# Altium integrated library Q-Resistors.IntLib: 917 symbols (part 5 of 8)
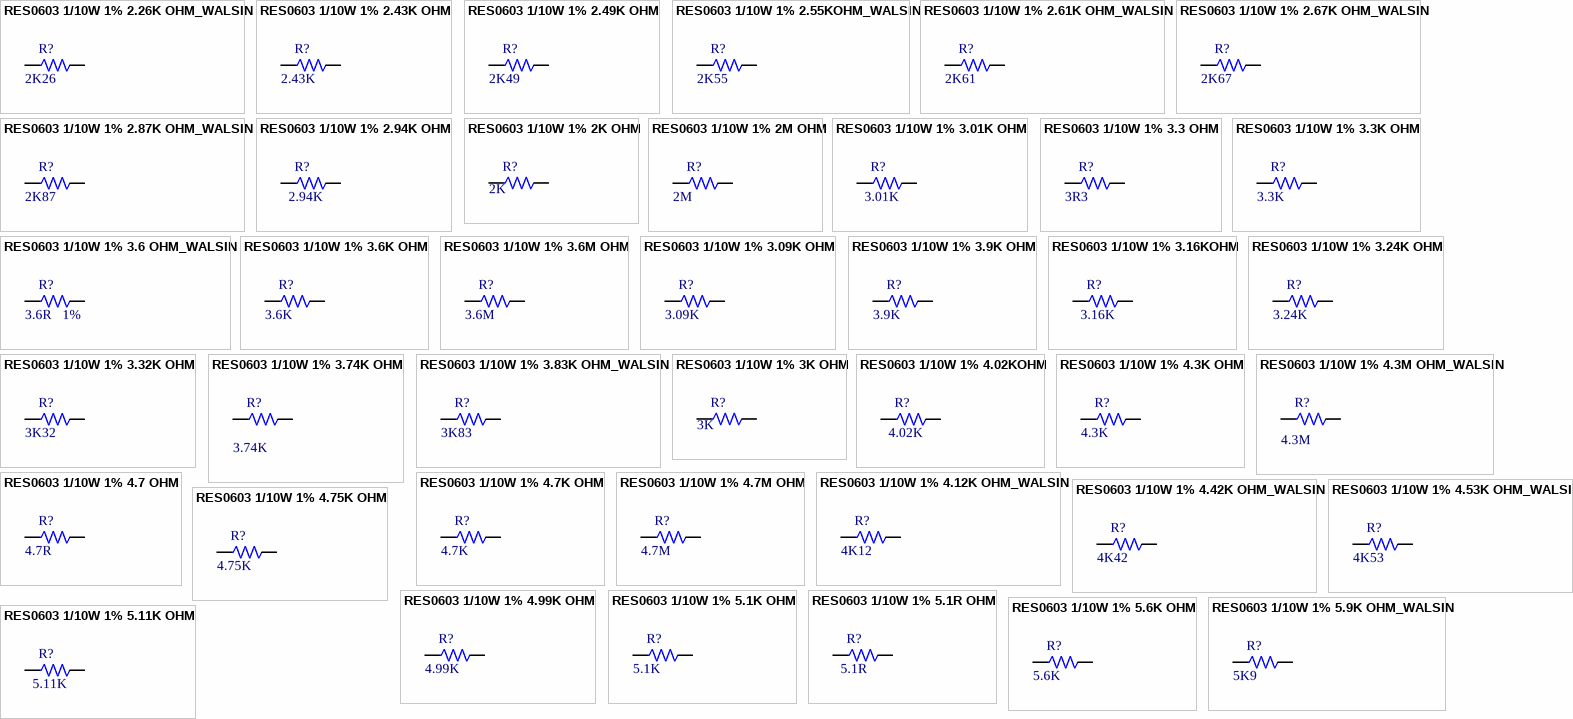
[diagram p26: symbols RES0603 1/10W 1% 2.26K OHM_WALSIN to RES0603 1/10W 1% 5.11K OHM]

## RES0603 1/10W 1% 4.99K OHM
designator R?, comment value 4.99K  (hidden comment: QCF011030-4991)
GP CHIP RES. 4.99K OHM 1/10W 1% 0603; Vendor Code: 10010262; SAP: T502499102399; Vendor Name: 东莞市晴远电子有限公司; DIP&SMD: SMD; Power: 1/10W; MFG Part: *; MFG: *; TOL: 1%; Type: Resistor; PACKAGE: 0603; Customer Specific: N/A
footprint 0603-RW
footprint 0603-SW
pins: 1, 2

## RES0603 1/10W 1% 5.1K OHM
designator R?, comment value 5.1K  (hidden comment: QCF011030-5101)
GP CHIP RES. 5.1K OHM 1/10W 1% 0603; Vendor Code: 10010262; SAP: T502510102399; Vendor Name: 东莞市晴远电子有限公司; DIP&SMD: SMD; Power: 1/10W; MFG Part: *; MFG: *; TOL: 1%; Type: Resistor; PACKAGE: 0603; Customer Specific: N/A
footprint 0603-RW
footprint 0603-SW
pins: 1, 2

## RES0603 1/10W 1% 5.1R OHM
designator R?, comment value 5.1R  (hidden comment: QCF011030-5108)
CHIP RES 5.1 OHM 1% 1/10W 0603 DALE/VISH; SAP: T502510B02399; CREATE_NAME: GordonL@Deftronics; DIP&SMD: SMD; Vendor Code: *; Power: 1/10W; Vendor Name: *; MFG: *; MFG Part: *; TOL: 1%; Type: Resistor; CREATE_TIME: 20-Mar-2014; PACKAGE: 0603; Customer Specific: N/A
footprint 0603-RW
footprint 0603-SW
pins: 1, 2

## RES0603 1/10W 1% 5.6K OHM
designator R?, comment value 5.6K  (hidden comment: QCF011030-5601)
GP CHIP RES. 5.6K OHM 1/10W 1% 0603; Vendor Code: 10010262; SAP: T502560102399; Vendor Name: 东莞市晴远电子有限公司; DIP&SMD: SMD; Power: 1/10W; MFG Part: *; MFG: *; TOL: 1%; Type: Resistor; PACKAGE: 0603; Customer Specific: N/A
footprint 0603-RW
footprint 0603-SW
pins: 1, 2

## RES0603 1/10W 1% 5.9K OHM_WALSIN
designator R?, comment value 5K9  (hidden comment: T502590102399)
CHIP 5.9K OHM  100PPM +-1% 0603 WALS L; Power: 1/10W; MFG: WALSIN (華新); TOL: 1%; CREATE_NAME: Nathan; DIP&SMD: SMD; Vendor Code: *; SAP: T502590102399; Vendor Name: *; MFG Part: *; Type: Resistor; PACKAGE: 0603; CREATE_TIME: 03-July-2016; Customer Specific: N/A
footprint 0603-RW
footprint 0603-SW
pins: 1, 2

## RES0603 1/10W 1% 5.11K OHM
designator R?, comment value 5.11K  (hidden comment: T502511102399)
CHIP 5.11K OHM 100PPM +-1% 0603 WALS L; Power: 1/10W; TOL: 1%; CREATE_NAME: Tom; DIP&SMD: SMD; Vendor Code: *; SAP: T502511102399; Vendor Name: *; MFG: *; MFG Part: *; Type: Resistor; CREATE_TIME: 10-Sep-2015; PACKAGE: 0603; Customer Specific: N/A
footprint 0603-RW
footprint 0603-SW
pins: 1, 2

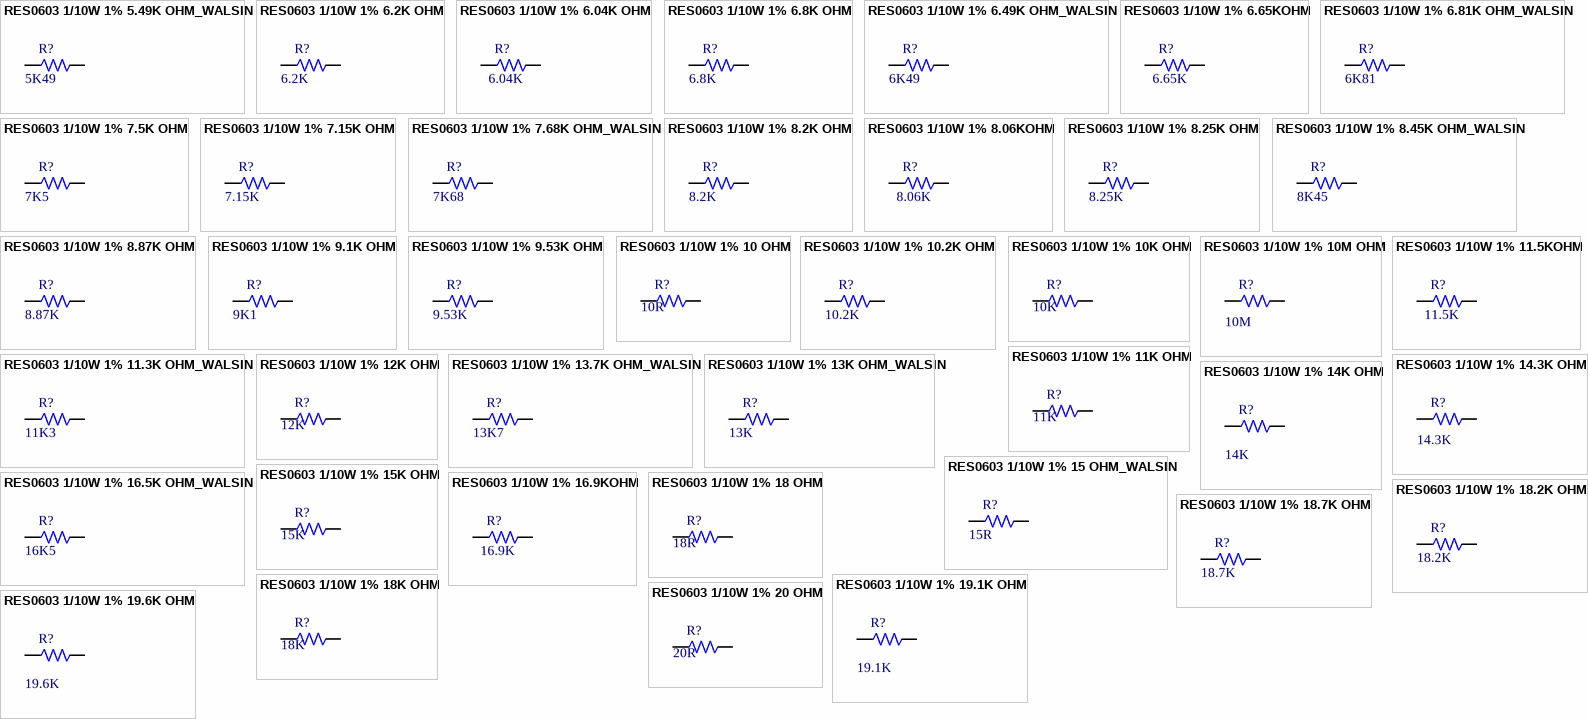
[diagram p13: symbols RES0603 1/10W 1% 5.49K OHM_WALSIN to RES0603 1/10W 1% 20 OHM]

## RES0603 1/10W 1% 5.49K OHM_WALSIN
designator R?, comment value 5K49  (hidden comment: T502549102399)
CHIP 5.49K OHM 100PPM +-1% 0603 WALS L; Power: 1/10W; MFG: WALSIN (華新); TOL: 1%; CREATE_NAME: Nathan; DIP&SMD: SMD; Vendor Code: *; SAP: T502549102399; Vendor Name: *; MFG Part: *; Type: Resistor; PACKAGE: 0603; CREATE_TIME: 03-July-2016; Customer Specific: N/A
footprint 0603-RW
footprint 0603-SW
pins: 1, 2

## RES0603 1/10W 1% 6.2K OHM
designator R?, comment value 6.2K  (hidden comment: QCF011030-6201)
GP CHIP RES. 6.2K OHM 1/10W 1% 0603; Vendor Code: 10010262; SAP: T502620102399; Vendor Name: 东莞市晴远电子有限公司; DIP&SMD: SMD; Power: 1/10W; MFG Part: *; MFG: *; TOL: 1%; Type: Resistor; PACKAGE: 0603; Customer Specific: N/A
footprint 0603-RW
footprint 0603-SW
pins: 1, 2

## RES0603 1/10W 1% 6.04K OHM
designator R?, comment value 6.04K  (hidden comment: T502604102399)
CHIP 6.04K OHM 100PPM +-1% 0603 WALS L; Power: 1/10W; TOL: 1%; CREATE_NAME: Tom; DIP&SMD: SMD; Vendor Code: *; SAP: T502604102399; Vendor Name: *; MFG: *; MFG Part: *; Type: Resistor; CREATE_TIME: 10-Sep-2015; PACKAGE: 0603; Customer Specific: N/A
footprint 0603-RW
footprint 0603-SW
pins: 1, 2

## RES0603 1/10W 1% 6.8K OHM
designator R?, comment value 6.8K  (hidden comment: QCF011030-6801)
GP CHIP RES. 6.8K OHM 1/10W 1% 0603; Vendor Code: 10010262; SAP: T502680102399; Vendor Name: 东莞市晴远电子有限公司; DIP&SMD: SMD; Power: 1/10W; MFG Part: *; MFG: *; TOL: 1%; Type: Resistor; PACKAGE: 0603; Customer Specific: N/A
footprint 0603-RW
footprint 0603-SW
pins: 1, 2

## RES0603 1/10W 1% 6.49K OHM_WALSIN
designator R?, comment value 6K49  (hidden comment: T502649102399)
CHIP 6.49K OHM 100PPM +-1% 0603 WALS L; Power: 1/10W; MFG: WALSIN (華新); TOL: 1%; CREATE_NAME: Nathan; DIP&SMD: SMD; Vendor Code: *; SAP: T502649102399; Vendor Name: *; MFG Part: *; Type: Resistor; PACKAGE: 0603; CREATE_TIME: 03-July-2016; Customer Specific: N/A
footprint 0603-RW
footprint 0603-SW
pins: 1, 2

## RES0603 1/10W 1% 6.65KOHM
designator R?, comment value 6.65K  (hidden comment: T502665102399)
CHIP 6.65K OHM 100PPM +-1% 0603 WALS L; Power: 1/10W; TOL: 1%; CREATE_NAME: Tom; DIP&SMD: SMD; Vendor Code: *; SAP: T502665102399; Vendor Name: *; MFG: *; MFG Part: *; Type: Resistor; CREATE_TIME: 14-Sep-2015; PACKAGE: 0603; Customer Specific: N/A
footprint 0603-RW
footprint 0603-SW
pins: 1, 2

## RES0603 1/10W 1% 6.81K OHM_WALSIN
designator R?, comment value 6K81  (hidden comment: T502681102399)
CHIP 6.81K OHM 100PPM +-1% 0603 WALS L; Power: 1/10W; MFG: WALSIN (華新); TOL: 1%; CREATE_NAME: Nathan; DIP&SMD: SMD; Vendor Code: *; SAP: T502681102399; Vendor Name: *; MFG Part: *; Type: Resistor; PACKAGE: 0603; CREATE_TIME: 03-July-2016; Customer Specific: N/A
footprint 0603-RW
footprint 0603-SW
pins: 1, 2

## RES0603 1/10W 1% 7.5K OHM
designator R?, comment value 7K5  (hidden comment: QCF011030-7501)
CHIP RES 7.5K OHM 1/10W 1% 0603; Vendor Code: 10010262; SAP: T502750102399; Vendor Name: 东莞市晴远电子有限公司; MFG: WALSIN (華新); CREATE_NAME: Nathan; DIP&SMD: SMD; Power: *; MFG Part: *; TOL: 1%; Type: Resistor; Power: 1/10W; CREATE_TIME: 26-NOV-2014; PACKAGE: 0603; Customer Specific: N/A
footprint 0603-RW
footprint 0603-SW
pins: 1, 2

## RES0603 1/10W 1% 7.15K OHM
designator R?, comment value 7.15K  (hidden comment: QCF011030-7151)
CHIP RES. 7.15K 1/10W 1% 0603; Vendor Code: 10010262; SAP: T502715102399; Vendor Name: 东莞市晴远电子有限公司; DIP&SMD: SMD; Power: 1/10W; MFG Part: *; MFG: *; TOL: 1%; Type: Resistor; PACKAGE: 0603; Customer Specific: N/A
footprint 0603-RW
footprint 0603-SW
pins: 1, 2

## RES0603 1/10W 1% 7.68K OHM_WALSIN
designator R?, comment value 7K68  (hidden comment: T502768102399)
CHIP 7.68K OHM 100PPM +-1% 0603 WALS L; Power: 1/10W; MFG: WALSIN (華新); TOL: 1%; CREATE_NAME: Nathan; DIP&SMD: SMD; Vendor Code: *; SAP: T502768102399; Vendor Name: *; MFG Part: *; Type: Resistor; PACKAGE: 0603; CREATE_TIME: 03-July-2016; Customer Specific: N/A
footprint 0603-RW
footprint 0603-SW
pins: 1, 2

## RES0603 1/10W 1% 8.2K OHM
designator R?, comment value 8.2K  (hidden comment: QCF011030-8201)
GP CHIP RES. 8.2K OHM 1/10W 1% 0603; Vendor Code: 10010262; SAP: T502820102399; Vendor Name: 东莞市晴远电子有限公司; DIP&SMD: SMD; Power: 1/10W; MFG Part: *; MFG: *; TOL: 1%; Type: Resistor; PACKAGE: 0603; Customer Specific: N/A
footprint 0603-RW
footprint 0603-SW
pins: 1, 2

## RES0603 1/10W 1% 8.06KOHM
designator R?, comment value 8.06K  (hidden comment: T502806102399)
CHIP 8.06K OHM 100PPM +-1% 0603 WALS L; Power: 1/10W; TOL: 1%; CREATE_NAME: Tom; DIP&SMD: SMD; Vendor Code: *; SAP: T502806102399; Vendor Name: *; MFG: *; MFG Part: *; Type: Resistor; CREATE_TIME: 14-Sep-2015; PACKAGE: 0603; Customer Specific: N/A
footprint 0603-RW
footprint 0603-SW
pins: 1, 2

## RES0603 1/10W 1% 8.25K OHM
designator R?, comment value 8.25K  (hidden comment: QCF011030-8251)
CHIP RES 8.25K OHM 1/10W 1% 0603; Vendor Code: 10010262; SAP: T502825102399; Vendor Name: 东莞市晴远电子有限公司; DIP&SMD: SMD; Power: 1/10W; MFG Part: *; MFG: *; TOL: 1%; Type: Resistor; PACKAGE: 0603; Customer Specific: N/A
footprint 0603-RW
footprint 0603-SW
pins: 1, 2

## RES0603 1/10W 1% 8.45K OHM_WALSIN
designator R?, comment value 8K45  (hidden comment: T502845102399)
CHIP 8.45K OHM 100PPM +-1% 0603 WALS L; Power: 1/10W; MFG: WALSIN (華新); TOL: 1%; CREATE_NAME: Nathan; DIP&SMD: SMD; Vendor Code: *; SAP: T502845102399; Vendor Name: *; MFG Part: *; Type: Resistor; PACKAGE: 0603; CREATE_TIME: 03-July-2016; Customer Specific: N/A
footprint 0603-RW
footprint 0603-SW
pins: 1, 2

## RES0603 1/10W 1% 8.87K OHM
designator R?, comment value 8.87K  (hidden comment: QCF011030-8871)
CHIP RES 8.87K OHM 1/10W 1% 0603; Vendor Code: 10010262; SAP: T502887102399; Vendor Name: 东莞市晴远电子有限公司; DIP&SMD: SMD; Power: 1/10W; MFG Part: *; MFG: *; TOL: 1%; Type: Resistor; PACKAGE: 0603; Customer Specific: N/A
footprint 0603-RW
footprint 0603-SW
pins: 1, 2

## RES0603 1/10W 1% 9.1K OHM
designator R?, comment value 9K1  (hidden comment: QCF011030-9101)
CHIP RES 9.1K OHM 1% 1/10W 0603; Vendor Code: 10010262; SAP: T502910102399; Vendor Name: 东莞市晴远电子有限公司; DIP&SMD: SMD; Power: 1/10W; MFG: *; MFG Part: *; TOL: 1%; Type: Resistor; PACKAGE: 0603; Customer Specific: N/A
footprint 0603-RW
footprint 0603-SW
pins: 1, 2

## RES0603 1/10W 1% 9.53K OHM
designator R?, comment value 9.53K  (hidden comment: T502953102399)
CHIP 9.53K OHM 100PPM +-1% 0603 WALS L; Power: 1/10W; MFG: WALSIN; CREATE_NAME: Tom; DIP&SMD: SMD; Vendor Code: *; SAP: T502953102399; Vendor Name: *; MFG Part: *; TOL: +-1%; Type: Resistor; PACKAGE: 0603; CREATE_TIME: 07-Aug-2015; Customer Specific: N/A
footprint 0603-RW
footprint 0603-SW
pins: 1, 2

## RES0603 1/10W 1% 10 OHM
designator R?, comment value 10R  (hidden comment: QCF011030-1009)
CHIP 10 OHM 100PPM +-1% 0603 WALS L; Vendor Code: 10010262; SAP: T502100A02399; Power: 1/10W; Vendor Name: 东莞市晴远电子有限公司; MFG: WALSIN (華新); TOL: 1%; DIP&SMD: SMD; MFG Part: *; Type: Resistor; PACKAGE: 0603; Customer Specific: N/A
footprint 0603-RW
footprint 0603-SW
pins: 1, 2

## RES0603 1/10W 1% 10.2K OHM
designator R?, comment value 10.2K  (hidden comment: QCF011030-1022)
CHIP RES 10.2K OHM 1/10W 1% 0603; Vendor Code: 10010262; SAP: T502102202399; Vendor Name: 东莞市晴远电子有限公司; DIP&SMD: SMD; Power: 1/10W; MFG Part: *; MFG: *; TOL: 1%; Type: Resistor; PACKAGE: 0603; Customer Specific: N/A
footprint 0603-RW
footprint 0603-SW
pins: 1, 2

## RES0603 1/10W 1% 10K OHM
designator R?, comment value 10K  (hidden comment: QCF011030-1002)
GP CHIP RES. 10K OHM 1/10W 1% 0603; Vendor Code: 10010262; SAP: T502100202399; Vendor Name: 东莞市晴远电子有限公司; DIP&SMD: SMD; Power: 1/10W; MFG Part: *; MFG: *; TOL: 1%; Type: Resistor; PACKAGE: 0603; Customer Specific: N/A
footprint 0603-RW
footprint 0603-SW
pins: 1, 2

## RES0603 1/10W 1% 10M OHM
designator R?, comment value 10M  (hidden comment: QCF011030-1005)
CHIP RES. 10M OHM 1/10W 1% 0603; Vendor Code: 10010262; SAP: T502100502399; Vendor Name: 东莞市晴远电子有限公司; DIP&SMD: SMD; Power: 1/10W; MFG Part: *; MFG: *; TOL: 1%; Type: Resistor; PACKAGE: 0603; Customer Specific: N/A
footprint 0603-RW
footprint 0603-SW
pins: 1, 2

## RES0603 1/10W 1% 11.3K OHM_WALSIN
designator R?, comment value 11K3  (hidden comment: T502113202399)
CHIP 11.3K OHM 100PPM +-1% 0603 WALS L; MFG Part: WR06X1132FTL; Power: 1/10W; MFG: WALSIN (華新); TOL: 1%; CREATE_NAME: Nathan; DIP&SMD: SMD; Vendor Code: *; SAP: T502113202399; Vendor Name: *; Type: Resistor; PACKAGE: 0603; CREATE_TIME: 18-Sep-2019; Customer Specific: N/A
footprint 0603-RW
footprint 0603-SW
pins: 1, 2

## RES0603 1/10W 1% 11.5KOHM
designator R?, comment value 11.5K  (hidden comment: T502115202399)
CHIP 11.5K OHM 100PPM +-1% 0603 WALS L; Power: 1/10W; TOL: 1%; CREATE_NAME: Tom; DIP&SMD: SMD; Vendor Code: *; SAP: T502115202399; Vendor Name: *; MFG: *; MFG Part: *; Type: Resistor; CREATE_TIME: 10-Sep-2015; PACKAGE: 0603; Customer Specific: N/A
footprint 0603-RW
footprint 0603-SW
pins: 1, 2

## RES0603 1/10W 1% 11K OHM
designator R?, comment value 11K  (hidden comment: QCF011030-1102)
CHIP RES 11K OHM 1/10W 1% 0603; Vendor Code: 10010262; SAP: T502110202399; Vendor Name: 东莞市晴远电子有限公司; DIP&SMD: SMD; Power: 1/10W; MFG Part: *; MFG: *; TOL: 1%; Type: Resistor; PACKAGE: 0603; Customer Specific: N/A
footprint 0603-RW
footprint 0603-SW
pins: 1, 2

## RES0603 1/10W 1% 12K OHM
designator R?, comment value 12K  (hidden comment: QCF011030-1202)
GP CHIP RES. 12K OHM 1/10W 1% 0603; Vendor Code: 10010262; SAP: T502120202399; Vendor Name: 东莞市晴远电子有限公司; DIP&SMD: SMD; Power: 1/10W; MFG Part: *; MFG: *; TOL: 1%; Type: Resistor; PACKAGE: 0603; Customer Specific: N/A
footprint 0603-RW
footprint 0603-SW
pins: 1, 2

## RES0603 1/10W 1% 13.7K OHM_WALSIN
designator R?, comment value 13K7  (hidden comment: T502137202399)
CHIP 13.7K OHM 100PPM +-1% 0603 WALS L; Power: 1/10W; MFG: WALSIN (華新); TOL: 1%; CREATE_NAME: Nathan; DIP&SMD: SMD; Vendor Code: *; SAP: T502137202399; Vendor Name: *; MFG Part: *; Type: Resistor; PACKAGE: 0603; CREATE_TIME: 03-July-2016; Customer Specific: N/A
footprint 0603-RW
footprint 0603-SW
pins: 1, 2

## RES0603 1/10W 1% 13K OHM_WALSIN
designator R?, comment value 13K  (hidden comment: T502130202399)
CHIP 13K OHM 100PPM +-1% 0603 WALS L; Power: 1/10W; MFG: WALSIN (華新); TOL: 1%; CREATE_NAME: Nathan; DIP&SMD: SMD; Vendor Code: *; SAP: T502130202399; Vendor Name: *; MFG Part: *; Type: Resistor; PACKAGE: 0603; CREATE_TIME: 03-July-2016; Customer Specific: N/A
footprint 0603-RW
footprint 0603-SW
pins: 1, 2

## RES0603 1/10W 1% 14.3K OHM
designator R?, comment value 14.3K  (hidden comment: QCF011030-1432)
CHIP RES 14.3K OHM  1/10W  1% 0603; SAP: T502143202399; MFG: WALSIN; CREATE_NAME: GordonL@Deftronics; DIP&SMD: SMD; Vendor Code: *; Power: 1/10W; Vendor Name: *; MFG Part: *; TOL: 1%; Type: Resistor; CREATE_TIME: 25-Mar-2014; PACKAGE: 0603; Customer Specific: N/A
footprint 0603-RW
footprint 0603-SW
pins: 1, 2

## RES0603 1/10W 1% 14K OHM
designator R?, comment value 14K  (hidden comment: QCF011030-1402)
GP CHIP RES. 14K OHM 1/10W 1% 0603; SAP: T502140202399; CREATE_NAME: Tom; DIP&SMD: SMD; TOL: 1%; MFG Part: *; MFG: *; Vendor Code: *; Vendor Name: *; Type: Resistor; CREATE_TIME: 08-Apr-2015; Power: 1/10W; Package: 0603; Customer Specific: N/A
footprint 0603-RW
pins: 1, 2

## RES0603 1/10W 1% 15 OHM_WALSIN
designator R?, comment value 15R  (hidden comment: T502150A02399)
CHIP 15 OHM 100PPM +-1% 0603 WALS L; MFG Part: WR06X15R0FTL; Power: 1/10W; MFG: WALSIN; TOL: 1%; CREATE_NAME: Tom; DIP&SMD: SMD; Vendor Code: *; SAP: T502150A02399; Vendor Name: *; Type: Resistor; PACKAGE: 0603; CREATE_TIME: 25-Nov-2019; Customer Specific: N/A
footprint 0603-RW
footprint 0603-SW
pins: 1, 2

## RES0603 1/10W 1% 15K OHM
designator R?, comment value 15K  (hidden comment: QCF011030-1502)
GP CHIP RES. 15K OHM 1/10W 1% 0603; Vendor Code: 10010262; SAP: T502150202399; Vendor Name: 东莞市晴远电子有限公司; DIP&SMD: SMD; Power: 1/10W; MFG Part: *; MFG: *; TOL: 1%; Type: Resistor; PACKAGE: 0603; Customer Specific: N/A
footprint 0603-RW
footprint 0603-SW
pins: 1, 2

## RES0603 1/10W 1% 16.5K OHM_WALSIN
designator R?, comment value 16K5  (hidden comment: T502165202399)
CHIP 16.5K OHM 100PPM +-1% 0603 WALS L; Power: 1/10W; MFG: WALSIN (華新); TOL: 1%; CREATE_NAME: Nathan; DIP&SMD: SMD; Vendor Code: *; SAP: T502165202399; Vendor Name: *; MFG Part: *; Type: Resistor; PACKAGE: 0603; CREATE_TIME: 03-July-2016; Customer Specific: N/A
footprint 0603-RW
footprint 0603-SW
pins: 1, 2

## RES0603 1/10W 1% 16.9KOHM
designator R?, comment value 16.9K  (hidden comment: T502169202399)
CHIP 16.9K OHM 100PPM +-1% 0603 WALS L; Power: 1/10W; TOL: 1%; CREATE_NAME: Tom; DIP&SMD: SMD; Vendor Code: *; SAP: T502169202399; Vendor Name: *; MFG: *; MFG Part: *; Type: Resistor; CREATE_TIME: 14-Sep-2015; PACKAGE: 0603; Customer Specific: N/A
footprint 0603-RW
footprint 0603-SW
pins: 1, 2

## RES0603 1/10W 1% 18 OHM
designator R?, comment value 18R  (hidden comment: QCF011030-1809)
GP CHIP RES. 18 OHM 1/10W 1% 0603; Vendor Code: 10010262; SAP: T502180A02399; Vendor Name: 东莞市晴远电子有限公司; DIP&SMD: SMD; Power: 1/10W; MFG Part: *; MFG: *; TOL: 1%; Type: Resistor; PACKAGE: 0603; Customer Specific: N/A
footprint 0603-RW
footprint 0603-SW
pins: 1, 2

## RES0603 1/10W 1% 18.2K OHM
designator R?, comment value 18.2K  (hidden comment: QCF011030-1822)
CHIP RES. 18.2K OHM 1/10W 1% 0603; Vendor Code: 10010262; SAP: T502182202399; Vendor Name: 东莞市晴远电子有限公司; DIP&SMD: SMD; Power: 1/10W; MFG Part: *; MFG: *; TOL: 1%; Type: Resistor; PACKAGE: 0603; Customer Specific: N/A
footprint 0603-RW
footprint 0603-SW
pins: 1, 2

## RES0603 1/10W 1% 18.7K OHM
designator R?, comment value 18.7K  (hidden comment: QCF011030-1872)
CHIP RES. 18.7k OHM 1/10W 1% 0603; Vendor Code: 10010262; SAP: T502187202399; Vendor Name: 东莞市晴远电子有限公司; DIP&SMD: SMD; Power: 1/10W; MFG Part: *; MFG: *; TOL: 1%; Type: Resistor; PACKAGE: 0603; Customer Specific: N/A
footprint 0603-RW
footprint 0603-SW
pins: 1, 2

## RES0603 1/10W 1% 18K OHM
designator R?, comment value 18K  (hidden comment: QCF011030-1802)
GP CHIP RES. 18K OHM 1/10W 1% 0603; Vendor Code: 10010262; SAP: T502180202399; Vendor Name: 东莞市晴远电子有限公司; DIP&SMD: SMD; Power: 1/10W; MFG Part: *; MFG: *; TOL: 1%; Type: Resistor; PACKAGE: 0603; Customer Specific: N/A
footprint 0603-RW
footprint 0603-SW
pins: 1, 2

## RES0603 1/10W 1% 19.1K OHM
designator R?, comment value 19.1K  (hidden comment: QCF011030-1912)
CHIP RES 19.1K OHM 1% 1/10W 0603; SAP: T502191202399; CREATE_NAME: Tom; DIP&SMD: SMD; TOL: 1%; MFG Part: *; MFG: *; Vendor Code: *; Vendor Name: *; Type: Resistor; CREATE_TIME: 14-Apr-2015; Power: 1/10W; Package: 0603; Customer Specific: N/A
footprint 0603-RW
pins: 1, 2

## RES0603 1/10W 1% 19.6K OHM
designator R?, comment value 19.6K  (hidden comment: T502196202399)
CHIP RES 19.6K OHM 1% 1/10W 0603; CREATE_NAME: Nathan; DIP&SMD: SMD; SAP: T502196202399; TOL: 1%; MFG Part: *; MFG: *; Vendor Code: *; Vendor Name: *; Type: Resistor; CREATE_TIME: 23-July-2015; Power: 1/10W; Package: 0603; Customer Specific: N/A
footprint 0603-RW
pins: 1, 2

## RES0603 1/10W 1% 20 OHM
designator R?, comment value 20R  (hidden comment: QCF011030-2009)
GP CHIP RES. 20 OHM 1/10W 1% 0603; Vendor Code: 10010262; SAP: T502200A02399; Vendor Name: 东莞市晴远电子有限公司; DIP&SMD: SMD; Power: 1/10W; MFG Part: *; MFG: *; TOL: 1%; Type: Resistor; PACKAGE: 0603; Customer Specific: N/A
footprint 0603-RW
footprint 0603-SW
pins: 1, 2

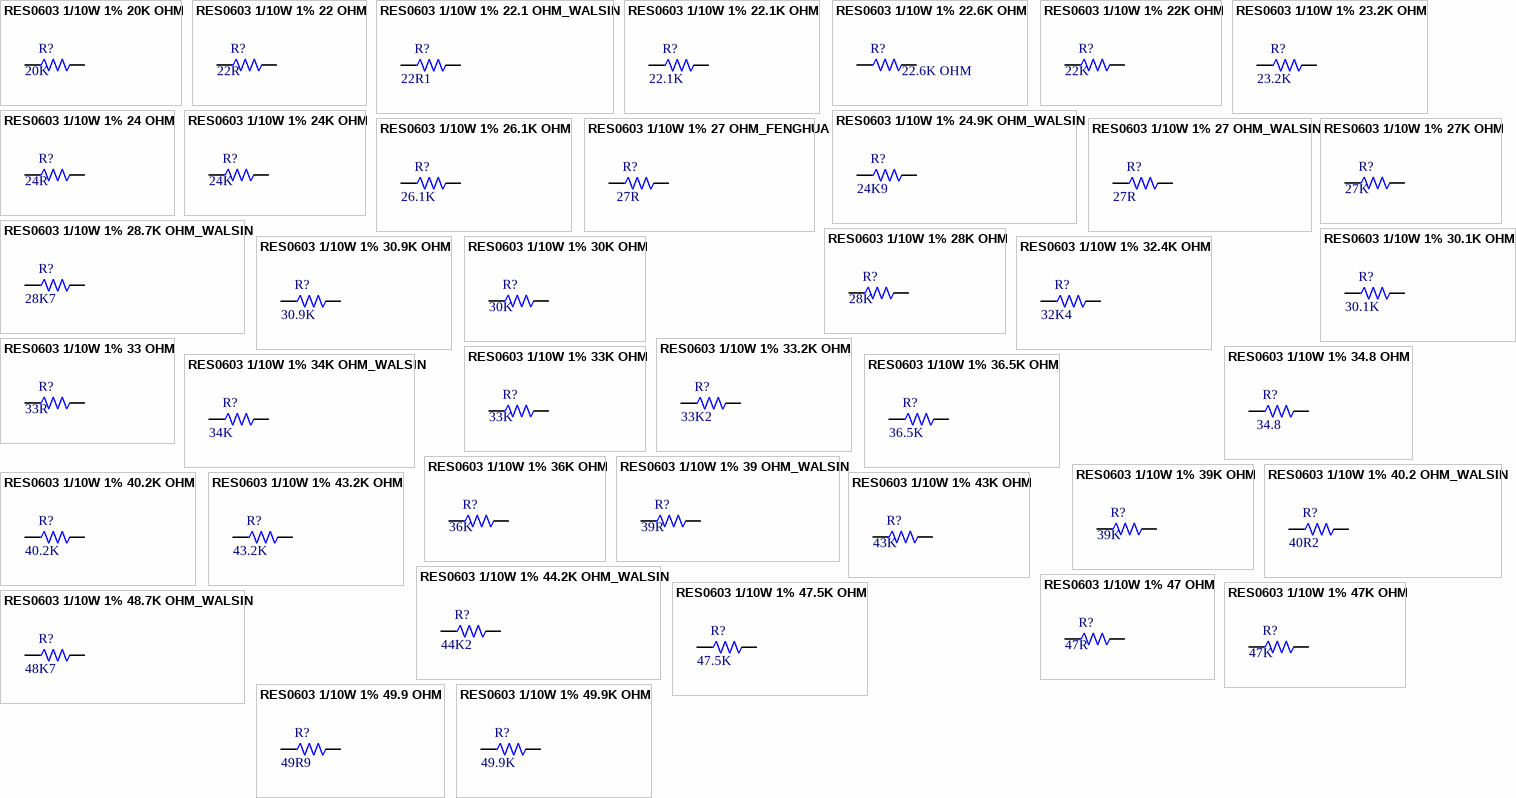
[diagram p14: symbols RES0603 1/10W 1% 20K OHM to RES0603 1/10W 1% 49.9K OHM]

## RES0603 1/10W 1% 20K OHM
designator R?, comment value 20K  (hidden comment: QCF011030-2002)
GP CHIP RES. 20K OHM 1/10W 1% 0603; Vendor Code: 10010262; SAP: T502200202399; Vendor Name: 东莞市晴远电子有限公司; DIP&SMD: SMD; Power: 1/10W; MFG Part: *; MFG: *; TOL: 1%; Type: Resistor; PACKAGE: 0603; Customer Specific: N/A
footprint 0603-RW
footprint 0603-SW
pins: 1, 2

## RES0603 1/10W 1% 22 OHM
designator R?, comment value 22R  (hidden comment: QCF011030-2209)
GP CHIP RES. 22 OHM 1/10W 1% 0603; Vendor Code: 10010262; SAP: T502220A02399; Vendor Name: 东莞市晴远电子有限公司; DIP&SMD: SMD; Power: 1/10W; MFG Part: *; MFG: *; TOL: 1%; Type: Resistor; PACKAGE: 0603; Customer Specific: N/A
footprint 0603-RW
footprint 0603-SW
pins: 1, 2

## RES0603 1/10W 1% 22.1 OHM_WALSIN
designator R?, comment value 22R1  (hidden comment: T502221A02399)
CHIP 22.1 OHM 100PPM +-1% 0603 WALS; MFG Part: WR06X22R1FTL; Power: 1/10W; MFG: WALSIN; TOL: 1%; DIP&SMD: SMD; CREATE_NAME: Nathan; SAP: T502221A02399; Type: Resistor; PACKAGE: 0603; Customer Specific: N/A; CREATE_TIME: 06-Aug-2020
footprint 0603-RW
footprint 0603-SW
pins: 1, 2

## RES0603 1/10W 1% 22.1K OHM
designator R?, comment value 22.1K  (hidden comment: QCF011030-2212)
CHIP RES. 22.1K OHM 1/10W 1% 0603; Vendor Code: 10010262; SAP: T502221202399; Vendor Name: 东莞市晴远电子有限公司; DIP&SMD: SMD; Power: 1/10W; MFG Part: *; MFG: *; TOL: 1%; Type: Resistor; PACKAGE: 0603; Customer Specific: N/A
footprint 0603-RW
footprint 0603-SW
pins: 1, 2

## RES0603 1/10W 1% 22.6K OHM
designator R?, comment value 22.6K OHM  (hidden comment: QCF011030-2262)
CHIP RES 22.6K OHM 1% 1/10W 0603; SAP: T502226202399; CREATE_NAME: TOM@Deftronics; DIP&SMD: SMD; Package: 0603; TOL: 1%; MFG Part: *; MFG: *; Vendor Code: *; Vendor Name: *; Type: Resistor; Power: 1/10W; CREATE_TIME: 05-Jun-2014; Customer Specific: N/A
footprint 0603-RW
footprint 0603-SW
pins: 1, 2

## RES0603 1/10W 1% 22K OHM
designator R?, comment value 22K  (hidden comment: QCF011030-2202)
GP CHIP RES. 22K OHM 1/10W 1% 0603; Vendor Code: 10010262; SAP: T502220202399; Vendor Name: 东莞市晴远电子有限公司; DIP&SMD: SMD; Power: 1/10W; MFG Part: *; MFG: *; TOL: 1%; Type: Resistor; PACKAGE: 0603; Customer Specific: N/A
footprint 0603-RW
footprint 0603-SW
pins: 1, 2

## RES0603 1/10W 1% 23.2K OHM
designator R?, comment value 23.2K  (hidden comment: QCF011030-2322)
CHIP RES 23.2K OHM 1% 1/10W  0603; SAP: T502232202399; CREATE_NAME: GordonL@Deftronics; DIP&SMD: SMD; Vendor Code: *; Power: 1/10W; Vendor Name: *; TOL: 1%; CREATE_TIME: 14-DEC-2012; Type: Resistor; PACKAGE: 0603; Customer Specific: N/A
footprint 0603-RW
footprint 0603-SW
pins: 1, 2

## RES0603 1/10W 1% 24 OHM
designator R?, comment value 24R  (hidden comment: QCF011030-2409)
CHIP RES. 24 OHM 1/10W 1% 0603; Vendor Code: 10010262; SAP: T502240A02399; Vendor Name: 东莞市晴远电子有限公司; DIP&SMD: SMD; Power: 1/10W; MFG Part: *; MFG: *; TOL: 1%; Type: Resistor; PACKAGE: 0603; Customer Specific: N/A
footprint 0603-RW
footprint 0603-SW
pins: 1, 2

## RES0603 1/10W 1% 24.9K OHM_WALSIN
designator R?, comment value 24K9  (hidden comment: T502249202399)
CHIP 24.9K OHM 100PPM +-1% 0603 WALS; Power: 1/10W; MFG: WALSIN (華新); TOL: 1%; CREATE_NAME: Nathan; DIP&SMD: SMD; Vendor Code: *; SAP: T502249202399; Vendor Name: *; MFG Part: *; Type: Resistor; PACKAGE: 0603; CREATE_TIME: 03-July-2016; Customer Specific: N/A
footprint 0603-RW
footprint 0603-SW
pins: 1, 2

## RES0603 1/10W 1% 24K OHM
designator R?, comment value 24K  (hidden comment: QCF011030-2402)
GP CHIP RES 24K OHM 1/10W 1% 0603; Vendor Code: 10010262; SAP: T502240202399; Vendor Name: 东莞市晴远电子有限公司; DIP&SMD: SMD; Power: 1/10W; MFG Part: *; MFG: *; TOL: 1%; Type: Resistor; PACKAGE: 0603; Customer Specific: N/A
footprint 0603-RW
footprint 0603-SW
pins: 1, 2

## RES0603 1/10W 1% 26.1K OHM
designator R?, comment value 26.1K  (hidden comment: QCF011030-2612)
CHIP RES 26.1K OHM 1/10W 1% 0603; Vendor Code: 10010262; SAP: T502261202399; Vendor Name: 东莞市晴远电子有限公司; DIP&SMD: SMD; Power: 1/10W; MFG Part: *; MFG: *; TOL: 1%; Type: Resistor; PACKAGE: 0603; Customer Specific: N/A
footprint 0603-RW
footprint 0603-SW
pins: 1, 2

## RES0603 1/10W 1% 27 OHM_FENGHUA
designator R?  value 27R  (hidden comment: *)
CHIP 27 OHM 100PPM +-1% 0805 FENGHUA; MFG Part: RS-03K27R0FT; Power: 0.1W; CREATE_NAME: Nathan; TOL: 1%; DIP&SMD: SMD; Vendor Code: *; SAP: *; Vendor Name: *; MFG: FENGHUA; Type: Resistor; CREATE_TIME: 14-Oct-2020; PACKAGE: 0603; Customer Specific: N/A
footprint 0603-RW
pins: 1, 2

## RES0603 1/10W 1% 27 OHM_WALSIN
designator R?  value 27R  (hidden comment: *)
CHIP 27 OHM 100PPM +-1% 0603 WALS L; MFG Part: WR06X27R0FTL; Power: 1/10W; MFG: WALSIN (華新); TOL: 1%; CREATE_NAME: Nathan; DIP&SMD: SMD; Vendor Code: *; SAP: *; Vendor Name: *; Type: Resistor; PACKAGE: 0603; CREATE_TIME: 12-Oct-2020; Customer Specific: N/A
footprint 0603-RW
footprint 0603-SW
pins: 1, 2

## RES0603 1/10W 1% 27K OHM
designator R?, comment value 27K  (hidden comment: QCF011030-2702)
GP CHIP RES. 27K OHM 1/10W 1% 0603; Vendor Code: 10010262; SAP: T502270202399; Vendor Name: 东莞市晴远电子有限公司; DIP&SMD: SMD; Power: 1/10W; MFG Part: *; MFG: *; TOL: 1%; Type: Resistor; PACKAGE: 0603; Customer Specific: N/A
footprint 0603-RW
footprint 0603-SW
pins: 1, 2

## RES0603 1/10W 1% 28.7K OHM_WALSIN
designator R?, comment value 28K7  (hidden comment: T502287202399)
CHIP 28.7K OHM 100PPM +-1% 0603 WALS L; Power: 1/10W; MFG: WALSIN (華新); TOL: 1%; CREATE_NAME: Nathan; DIP&SMD: SMD; Vendor Code: *; SAP: T502287202399; Vendor Name: *; MFG Part: *; Type: Resistor; PACKAGE: 0603; CREATE_TIME: 03-July-2016; Customer Specific: N/A
footprint 0603-RW
footprint 0603-SW
pins: 1, 2

## RES0603 1/10W 1% 28K OHM
designator R?, comment value 28K  (hidden comment: QCF011030-2802)
CHIP RES 28K OHM 1/10W 1% 0603; Vendor Code: 10010262; SAP: T502280202399; Vendor Name: 东莞市晴远电子有限公司; DIP&SMD: SMD; Power: 1/10W; MFG Part: *; MFG: *; TOL: 1%; Type: Resistor; PACKAGE: 0603; Customer Specific: N/A
footprint 0603-RW
footprint 0603-SW
pins: 1, 2

## RES0603 1/10W 1% 30.1K OHM
designator R?, comment value 30.1K  (hidden comment: QCF011030-3012)
GP CHIP RES. 30.1K 1/10W 1% 0603; Vendor Code: 10010262; SAP: T502301202399; Vendor Name: 东莞市晴远电子有限公司; DIP&SMD: SMD; Power: 1/10W; MFG Part: *; MFG: *; TOL: 1%; Type: Resistor; PACKAGE: 0603; Customer Specific: N/A
footprint 0603-RW
footprint 0603-SW
pins: 1, 2

## RES0603 1/10W 1% 30.9K OHM
designator R?, comment value 30.9K  (hidden comment: QCF011030-3092)
CHIP RES. 30.9K OHM 1/10W 1% 0603; Vendor Code: 10010262; SAP: T502309202399; Vendor Name: 东莞市晴远电子有限公司; DIP&SMD: SMD; Power: 1/10W; MFG Part: *; MFG: *; TOL: 1%; Type: Resistor; PACKAGE: 0603; Customer Specific: N/A
footprint 0603-RW
footprint 0603-SW
pins: 1, 2

## RES0603 1/10W 1% 30K OHM
designator R?, comment value 30K  (hidden comment: QCF011030-3002)
GP CHIP RES. 30K OHM 1/10W 1% 0603; Vendor Code: 10010262; SAP: T502300202399; Vendor Name: 东莞市晴远电子有限公司; DIP&SMD: SMD; Power: 1/10W; MFG Part: *; MFG: *; TOL: 1%; Type: Resistor; PACKAGE: 0603; Customer Specific: N/A
footprint 0603-RW
footprint 0603-SW
pins: 1, 2

## RES0603 1/10W 1% 32.4K OHM
designator R?, comment value 32K4  (hidden comment: QCF011030-3242)
CHIP RES 32.4K OHM 1% 1/10W 0603 100PPM WALSIN; Vendor Code: 10010262; SAP: T502324202399; Vendor Name: 东莞市晴远电子有限公司; CREATE_NAME: Nathan; DIP&SMD: SMD; Power: 1/10W; MFG Part: *; MFG: WALSIN; TOL: 1%; Type: Resistor; CREATE_TIME: 15-Apr-2015; PACKAGE: 0603; Customer Specific: N/A
footprint 0603-RW
footprint 0603-SW
pins: 1, 2

## RES0603 1/10W 1% 33 OHM
designator R?, comment value 33R  (hidden comment: QCF011030-3309)
CHIP RES 33 OHM 1/10W 1% 0603; Vendor Code: 10010262; SAP: T502330A02399; Vendor Name: 东莞市晴远电子有限公司; DIP&SMD: SMD; Power: 1/10W; MFG Part: *; MFG: *; TOL: 1%; Type: Resistor; PACKAGE: 0603; Customer Specific: N/A
footprint 0603-RW
footprint 0603-SW
pins: 1, 2

## RES0603 1/10W 1% 33.2K OHM
designator R?, comment value 33K2  (hidden comment: QCF011030-3322)
CHIP RES 33.2K OHM 1% 1/10W 0603; Vendor Code: 10010262; SAP: T502332202399; Vendor Name: 东莞市晴远电子有限公司; MFG: WALSIN (華新); CREATE_NAME: Nathan; DIP&SMD: SMD; Power: 1/10W; MFG Part: *; TOL: 1%; Type: Resistor; CREATE_TIME: 27-NOV-2014; PACKAGE: 0603; Customer Specific: N/A
footprint 0603-RW
footprint 0603-SW
pins: 1, 2

## RES0603 1/10W 1% 33K OHM
designator R?, comment value 33K  (hidden comment: QCF011030-3302)
GP CHIP RES. 33K OHM 1/10W 1% 0603; Vendor Code: 10010262; SAP: T502330202399; Vendor Name: 东莞市晴远电子有限公司; DIP&SMD: SMD; Power: 1/10W; MFG Part: *; MFG: *; TOL: 1%; Type: Resistor; PACKAGE: 0603; Customer Specific: N/A
footprint 0603-RW
footprint 0603-SW
pins: 1, 2

## RES0603 1/10W 1% 34.8 OHM
designator R?, comment value 34.8  (hidden comment: QCF011030-3489)
CHIP RES 34.8 OHM 1% 1/10W  0603; SAP: T502348A02399; CREATE_NAME: TOM@Deftronics; DIP&SMD: SMD; Vendor Code: *; Power: 1/10W; Vendor Name: *; MFG: *; MFG Part: *; TOL: 1%; Type: Resistor; CREATE_TIME: 21-Nov-2013; PACKAGE: 0603; Customer Specific: N/A
footprint 0603-RW
footprint 0603-SW
pins: 1, 2

## RES0603 1/10W 1% 34K OHM_WALSIN
designator R?, comment value 34K  (hidden comment: T502340202399)
CHIP 34K OHM   100PPM +-1% 0603 WALS L; Power: 1/10W; MFG: WALSIN (華新); TOL: 1%; CREATE_NAME: Nathan; DIP&SMD: SMD; Vendor Code: *; SAP: T502340202399; Vendor Name: *; MFG Part: *; Type: Resistor; PACKAGE: 0603; CREATE_TIME: 03-July-2016; Customer Specific: N/A
footprint 0603-RW
footprint 0603-SW
pins: 1, 2

## RES0603 1/10W 1% 36.5K OHM
designator R?, comment value 36.5K  (hidden comment: QCF011030-3652)
CHIP RES 36.5K OHM 1/10W 1% 0603; Vendor Code: 10010262; SAP: T502365202399; Vendor Name: 东莞市晴远电子有限公司; DIP&SMD: SMD; Power: 1/10W; MFG Part: *; MFG: *; TOL: 1%; Type: Resistor; PACKAGE: 0603; Customer Specific: N/A
footprint 0603-RW
footprint 0603-SW
pins: 1, 2

## RES0603 1/10W 1% 36K OHM
designator R?, comment value 36K  (hidden comment: QCF011030-3602)
CHIP RES. 36K OHM 1/10W 1% 0603; Vendor Code: 10010262; SAP: T502360202399; Vendor Name: 东莞市晴远电子有限公司; DIP&SMD: SMD; Power: 1/10W; MFG Part: *; MFG: *; TOL: 1%; Type: Resistor; PACKAGE: 0603; Customer Specific: N/A
footprint 0603-RW
footprint 0603-SW
pins: 1, 2

## RES0603 1/10W 1% 39 OHM_WALSIN
designator R?, comment value 39R  (hidden comment: T502390A02399)
CHIP 39 OHM 100PPM +-1% 0603 WALS L; MFG Part: WR06X39R0FTL; Power: 1/10W; MFG: WALSIN (華新); TOL: 1%; DIP&SMD: SMD; CREATE_NAME: Nathan; Vendor Code: *; SAP: T502390A02399; Vendor Name: *; Type: Resistor; PACKAGE: 0603; Customer Specific: N/A; CREATE_TIME: 19-Dec-2018
footprint 0603-RW
footprint 0603-SW
pins: 1, 2

## RES0603 1/10W 1% 39K OHM
designator R?, comment value 39K  (hidden comment: QCF011030-3902)
GP CHIP RES. 39K  OHM 1/10W 1% 0603; Vendor Code: 10010262; SAP: T502390202399; Vendor Name: 东莞市晴远电子有限公司; DIP&SMD: SMD; Power: 1/10W; MFG Part: *; MFG: *; TOL: 1%; Type: Resistor; PACKAGE: 0603; Customer Specific: N/A
footprint 0603-RW
footprint 0603-SW
pins: 1, 2

## RES0603 1/10W 1% 40.2 OHM_WALSIN
designator R?, comment value 40R2  (hidden comment: T502402A02399)
CHIP 40.2 OHM 100PPM +-1% 0603 WALS L; MFG Part: WR06X40R2FTL; Power: 1/10W; MFG: WALSIN (華新); TOL: 1%; CREATE_NAME: Nathan; DIP&SMD: SMD; Vendor Code: *; SAP: T502402A02399; Vendor Name: *; Type: Resistor; PACKAGE: 0603; CREATE_TIME: 05-Jan-2018; Customer Specific: N/A
footprint 0603-RW
footprint 0603-SW
pins: 1, 2

## RES0603 1/10W 1% 40.2K OHM
designator R?, comment value 40.2K  (hidden comment: QCF011030-4022)
CHIP RES 40.2K OHM 1/10W 1% 0603; Vendor Code: 10010262; SAP: T502402202399; Vendor Name: 东莞市晴远电子有限公司; DIP&SMD: SMD; Power: 1/10W; MFG Part: *; MFG: *; TOL: 1%; Type: Resistor; PACKAGE: 0603; Customer Specific: N/A
footprint 0603-RW
footprint 0603-SW
pins: 1, 2

## RES0603 1/10W 1% 43.2K OHM
designator R?, comment value 43.2K  (hidden comment: QCF011030-4322)
CHIP RES. 43.2K OHM 1/10W 1% 0603; Vendor Code: 10010262; SAP: T502432202399; Vendor Name: 东莞市晴远电子有限公司; DIP&SMD: SMD; Power: 1/10W; MFG Part: *; MFG: *; TOL: 1%; Type: Resistor; PACKAGE: 0603; Customer Specific: N/A
footprint 0603-RW
footprint 0603-SW
pins: 1, 2

## RES0603 1/10W 1% 43K OHM
designator R?, comment value 43K  (hidden comment: QCF011031-4302)
CHIP RES. 43K OHM 1/10W 1% 0603; Vendor Code: 10010262; SAP: T502430202399; Vendor Name: 东莞市晴远电子有限公司; DIP&SMD: SMD; Power: 1/10W; MFG Part: *; MFG: *; TOL: 1%; Type: Resistor; PACKAGE: 0603; Customer Specific: N/A
footprint 0603-RW
footprint 0603-SW
pins: 1, 2

## RES0603 1/10W 1% 44.2K OHM_WALSIN
designator R?, comment value 44K2  (hidden comment: T502442202399)
CHIP 44.2K OHM 100PPM +-1% 0603 WALS L; Power: 1/10W; MFG: WALSIN (華新); TOL: 1%; CREATE_NAME: Nathan; DIP&SMD: SMD; Vendor Code: *; SAP: T502442202399; Vendor Name: *; MFG Part: *; Type: Resistor; PACKAGE: 0603; CREATE_TIME: 03-July-2016; Customer Specific: N/A
footprint 0603-RW
footprint 0603-SW
pins: 1, 2

## RES0603 1/10W 1% 47 OHM
designator R?, comment value 47R  (hidden comment: QCF011030-4709)
GP CHIP RES. 47 OHM 1/10W 1% 0603; Vendor Code: 10010262; SAP: T502470A02399; Vendor Name: 东莞市晴远电子有限公司; DIP&SMD: SMD; Power: 1/10W; MFG Part: *; MFG: *; TOL: 1%; Type: Resistor; PACKAGE: 0603; Customer Specific: N/A
footprint 0603-RW
footprint 0603-SW
pins: 1, 2

## RES0603 1/10W 1% 47.5K OHM
designator R?, comment value 47.5K  (hidden comment: QCF011030-4752)
CHIP RES 47.5K OHM 1/10W 1% 0603; Vendor Code: 10010262; SAP: T502475202399; Vendor Name: 东莞市晴远电子有限公司; DIP&SMD: SMD; Power: 1/10W; MFG Part: *; MFG: *; TOL: 1%; Type: Resistor; PACKAGE: 0603; Customer Specific: N/A
footprint 0603-RW
footprint 0603-SW
pins: 1, 2

## RES0603 1/10W 1% 47K OHM
designator R?, comment value 47K  (hidden comment: QCF011030-4702)
GP CHIP RES. 47K OHM 1/10W 1% 0603; Vendor Code: 10010262; SAP: T502470202399; Vendor Name: 东莞市晴远电子有限公司; DIP&SMD: SMD; Power: 1/10W; MFG Part: *; MFG: *; TOL: 1%; Type: Resistor; PACKAGE: 0603; Customer Specific: N/A
footprint 0603-RW
footprint 0603-SW
pins: 1, 2

## RES0603 1/10W 1% 48.7K OHM_WALSIN
designator R?, comment value 48K7  (hidden comment: T502487202399)
CHIP 48.7K OHM 100PPM +-1% 0603 WALS L; Power: 1/10W; MFG: WALSIN (華新); TOL: 1%; CREATE_NAME: Nathan; DIP&SMD: SMD; Vendor Code: *; SAP: T502487202399; Vendor Name: *; MFG Part: *; Type: Resistor; PACKAGE: 0603; CREATE_TIME: 03-July-2016; Customer Specific: N/A
footprint 0603-RW
footprint 0603-SW
pins: 1, 2

## RES0603 1/10W 1% 49.9 OHM
designator R?, comment value 49R9  (hidden comment: QCF011031-4999)
GP CHIP RES. 49.9 OHM 1/10W 1% 0603; SAP: T502499A02399; MFG: TA-I (大毅); CREATE_NAME: GordonL@Deftronics; DIP&SMD: SMD; Vendor Code: *; Power: 1/10W; Vendor Name: *; MFG Part: *; TOL: 1%; Type: Resistor; CREATE_TIME: 24-JAN-2013; PACKAGE: 0603; Customer Specific: N/A
footprint 0603-RW
footprint 0603-SW
pins: 1, 2

## RES0603 1/10W 1% 49.9K OHM
designator R?, comment value 49.9K  (hidden comment: QCF011030-4992)
GP CHIP RES. 49.9K OHM 1/10W 1% 0603; Vendor Code: 10010262; SAP: T502499202399; Vendor Name: 东莞市晴远电子有限公司; DIP&SMD: SMD; Power: 1/10W; MFG Part: *; MFG: *; TOL: 1%; Type: Resistor; PACKAGE: 0603; Customer Specific: N/A
footprint 0603-RW
footprint 0603-SW
pins: 1, 2

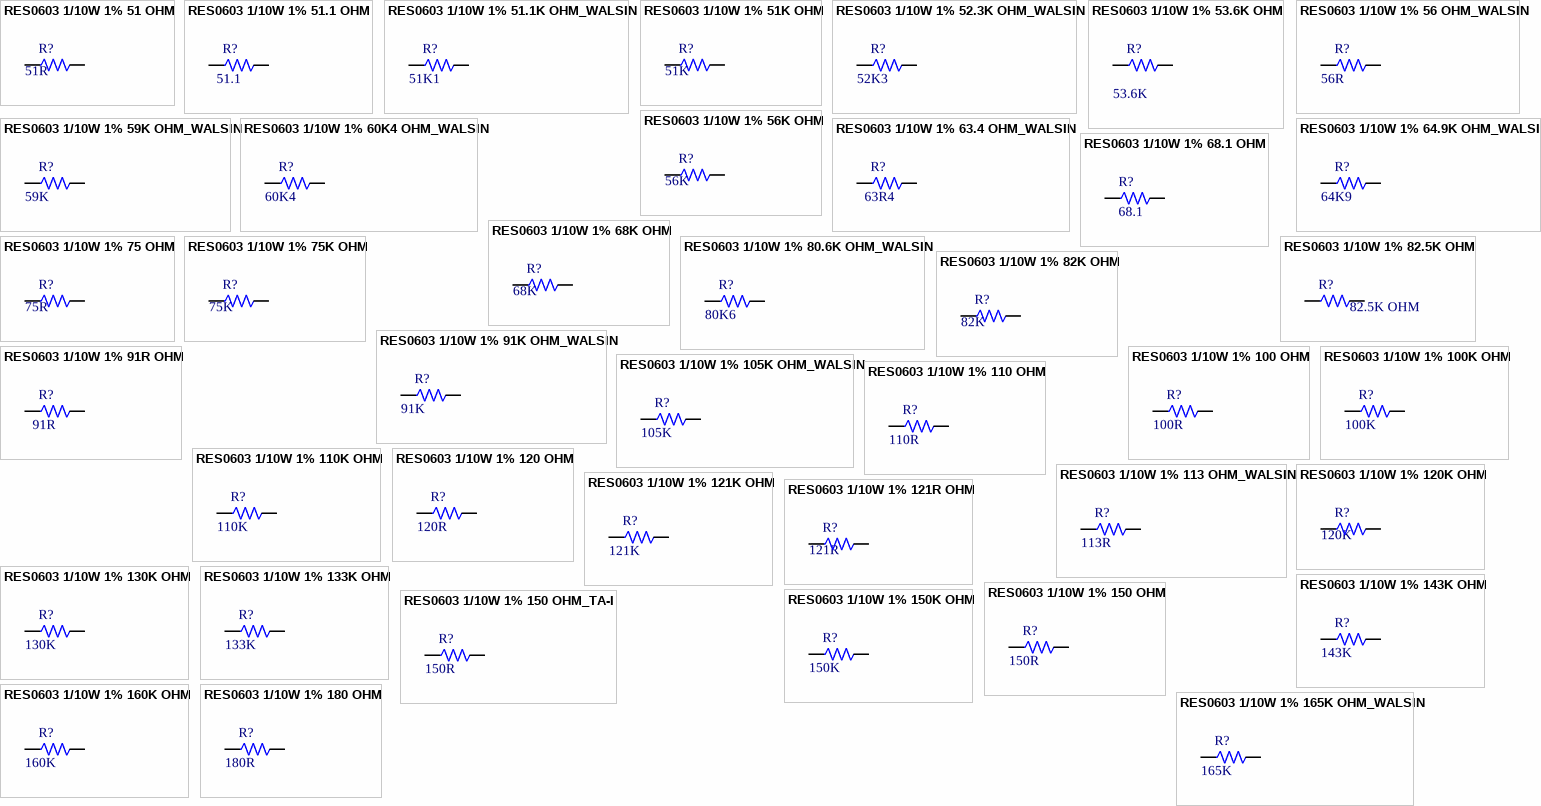
[diagram p15: symbols RES0603 1/10W 1% 51 OHM to RES0603 1/10W 1% 180 OHM]

## RES0603 1/10W 1% 51 OHM
designator R?, comment value 51R  (hidden comment: QCF011030-5109)
CHIP RES. 51 OHM 1/10W 1% 0603; Vendor Code: 10010262; SAP: T502510A02399; Vendor Name: 东莞市晴远电子有限公司; DIP&SMD: SMD; Power: 1/10W; MFG Part: *; MFG: *; TOL: 1%; Type: Resistor; PACKAGE: 0603; Customer Specific: N/A
footprint 0603-RW
footprint 0603-SW
pins: 1, 2

## RES0603 1/10W 1% 51.1 OHM
designator R?, comment value 51.1  (hidden comment: QCF011030-5119)
CHIP RES 51.1 OHM 1% 1/10W 0603; SAP: T502511A02399; CREATE_NAME: TOM@Deftronics; DIP&SMD: SMD; Vendor Code: *; Power: 1/10W; Vendor Name: *; MFG: *; MFG Part: *; TOL: 1%; Type: Resistor; CREATE_TIME: 21-Nov-2013; PACKAGE: 0603; Customer Specific: N/A
footprint 0603-RW
footprint 0603-SW
pins: 1, 2

## RES0603 1/10W 1% 51.1K OHM_WALSIN
designator R?, comment value 51K1  (hidden comment: T502511202399)
CHIP 51.1K OHM 100PPM +-1% 0603 WALS L; Power: 1/10W; MFG: WALSIN (華新); TOL: 1%; CREATE_NAME: Nathan; DIP&SMD: SMD; Vendor Code: *; SAP: T502511202399; Vendor Name: *; MFG Part: *; Type: Resistor; PACKAGE: 0603; CREATE_TIME: 03-July-2016; Customer Specific: N/A
footprint 0603-RW
footprint 0603-SW
pins: 1, 2

## RES0603 1/10W 1% 51K OHM
designator R?, comment value 51K  (hidden comment: QCF011030-5102)
CHIP RES 51K OHM 1/10W 1% 0603; Vendor Code: 10010262; SAP: T502510202399; Vendor Name: 东莞市晴远电子有限公司; DIP&SMD: SMD; Power: 1/10W; MFG Part: *; MFG: *; TOL: 1%; Type: Resistor; PACKAGE: 0603; Customer Specific: N/A
footprint 0603-RW
footprint 0603-SW
pins: 1, 2

## RES0603 1/10W 1% 52.3K OHM_WALSIN
designator R?, comment value 52K3  (hidden comment: T502523202399)
CHIP 52.3K OHM 100PPM +-1% 0603 WALS L; Power: 1/10W; MFG: WALSIN (華新); TOL: 1%; CREATE_NAME: Nathan; DIP&SMD: SMD; Vendor Code: *; SAP: T502523202399; Vendor Name: *; MFG Part: *; Type: Resistor; PACKAGE: 0603; CREATE_TIME: 03-July-2016; Customer Specific: N/A
footprint 0603-RW
footprint 0603-SW
pins: 1, 2

## RES0603 1/10W 1% 53.6K OHM
designator R?, comment value 53.6K  (hidden comment: T502536202399)
CHIP RES 53.6K OHM 1% 1/10W 0603; CREATE_NAME: Nathan; DIP&SMD: SMD; SAP: T502536202399; TOL: 1%; MFG Part: *; MFG: *; Vendor Code: *; Vendor Name: *; Type: Resistor; CREATE_TIME: 23-July-2015; Power: 1/10W; Package: 0603; Customer Specific: N/A
footprint 0603-RW
pins: 1, 2

## RES0603 1/10W 1% 56 OHM_WALSIN
designator R?, comment value 56R  (hidden comment: T502560A02399)
CHIP 56 OHM 100PPM +-1% 0603 WALS L; Power: 1/10W; MFG: WALSIN (華新); TOL: 1%; CREATE_NAME: Nathan; DIP&SMD: SMD; Vendor Code: *; SAP: T502560A02399; Vendor Name: *; MFG Part: *; Type: Resistor; PACKAGE: 0603; CREATE_TIME: 03-July-2016; Customer Specific: N/A
footprint 0603-RW
footprint 0603-SW
pins: 1, 2

## RES0603 1/10W 1% 56K OHM
designator R?, comment value 56K  (hidden comment: QCF011030-5602)
CHIP RES 56K OHM 1/10W 1% 0603; Vendor Code: 10010262; SAP: T502560202399; Vendor Name: 东莞市晴远电子有限公司; DIP&SMD: SMD; Power: 1/10W; MFG Part: *; MFG: *; TOL: 1%; Type: Resistor; PACKAGE: 0603; Customer Specific: N/A
footprint 0603-RW
footprint 0603-SW
pins: 1, 2

## RES0603 1/10W 1% 59K OHM_WALSIN
designator R?  value 59K  (hidden comment: *)
CHIP 59K OHM  100PPM +-1% 0603 WALS L; MFG Part: WR06X5902FTL; Power: 1/10W; MFG: WALSIN (華新); TOL: 1%; CREATE_NAME: Nathan; DIP&SMD: SMD; Vendor Code: *; SAP: *; Vendor Name: *; Type: Resistor; PACKAGE: 0603; CREATE_TIME: 22-Jun-2020; Customer Specific: N/A
footprint 0603-RW
footprint 0603-SW
pins: 1, 2

## RES0603 1/10W 1% 60K4 OHM_WALSIN
designator R?, comment value 60K4  (hidden comment: T502604202399)
RES0603 1/10W 1% 60.4K OHM,WR06X6042FTL; MFG: WALSIN (華新); CREATE_NAME: Nathan; DIP&SMD: SMD; Vendor Code: *; SAP: T502604202399; Power: 1/10W; Vendor Name: *; MFG Part: *; TOL: 1%; Type: Resistor; PACKAGE: 0603; CREATE_TIME: 26-Oct-2016; Customer Specific: N/A
footprint 0603-RW
footprint 0603-SW
pins: 1, 2

## RES0603 1/10W 1% 63.4 OHM_WALSIN
designator R?  value 63R4  (hidden comment: *)
63.4R , WR06X63R4FTL; Power: 1/10W; MFG: WALSIN; TOL: 1%; CREATE_NAME: Tom; DIP&SMD: SMD; Vendor Code: *; SAP: *; Vendor Name: *; MFG Part: WR06X63R4FTL; Type: Resistor; CREATE_TIME: 10-Sep-2015; PACKAGE: 0603; Customer Specific: N/A
footprint 0603-RW
footprint 0603-SW
pins: 1, 2

## RES0603 1/10W 1% 64.9K OHM_WALSIN
designator R?, comment value 64K9  (hidden comment: T502649202399)
CHIP 64.9KOHM 100PPM +-1% 0603 WALS L; Power: 1/10W; MFG: WALSIN (華新); TOL: 1%; CREATE_NAME: Nathan; DIP&SMD: SMD; Vendor Code: *; SAP: T502649202399; Vendor Name: *; MFG Part: *; Type: Resistor; PACKAGE: 0603; CREATE_TIME: 03-July-2016; Customer Specific: N/A
footprint 0603-RW
footprint 0603-SW
pins: 1, 2

## RES0603 1/10W 1% 68.1 OHM
designator R?, comment value 68.1  (hidden comment: T502681A02399)
CHIP 68.1 OHM 100PPM +-1% 0603 WALS L; MFG Part: WR06X68R1FTL; Power: 1\10W; MFG: WALSIN; TOL: 1%; CREATE_NAME: AeVee; DIP&SMD: SMD; Vendor Code: *; SAP: T502681A02399; Vendor Name: *; Type: Resistor; CREATE_TIME: 19-July-2106; PACKAGE: 0603
footprint 0603-RW
pins: 1, 2

## RES0603 1/10W 1% 68K OHM
designator R?, comment value 68K  (hidden comment: QCF011030-6802)
GP CHIP RES. 68K OHM 1/10W 1% 0603; Vendor Code: 10010262; SAP: T502680202399; Vendor Name: 东莞市晴远电子有限公司; DIP&SMD: SMD; Power: 1/10W; MFG Part: *; MFG: *; TOL: 1%; Type: Resistor; PACKAGE: 0603; Customer Specific: N/A
footprint 0603-RW
footprint 0603-SW
pins: 1, 2

## RES0603 1/10W 1% 75 OHM
designator R?, comment value 75R  (hidden comment: QCF011030-7509)
GP CHIP RES. 75 OHM 1/10W 1% 0603; Vendor Code: 10010262; SAP: T502750A02399; Vendor Name: 东莞市晴远电子有限公司; DIP&SMD: SMD; Power: 1/10W; MFG Part: *; MFG: *; TOL: 1%; Type: Resistor; PACKAGE: 0603; Customer Specific: N/A
footprint 0603-RW
footprint 0603-SW
pins: 1, 2

## RES0603 1/10W 1% 75K OHM
designator R?, comment value 75K  (hidden comment: QCF011030-7502)
GP CHIP RES. 75K OHM 1/10W 1% 0603; Vendor Code: 10010262; SAP: T502750202399; Vendor Name: 东莞市晴远电子有限公司; DIP&SMD: SMD; Power: 1/10W; MFG Part: *; MFG: *; TOL: 1%; Type: Resistor; PACKAGE: 0603; Customer Specific: N/A
footprint 0603-RW
footprint 0603-SW
pins: 1, 2

## RES0603 1/10W 1% 80.6K OHM_WALSIN
designator R?, comment value 80K6  (hidden comment: T502806202399)
CHIP 80.6K OHM 100PPM +-1% 0603 WALS L; Power: 1/10W; MFG: WALSIN (華新); TOL: 1%; CREATE_NAME: Nathan; DIP&SMD: SMD; Vendor Code: *; SAP: T502806202399; Vendor Name: *; MFG Part: *; Type: Resistor; PACKAGE: 0603; CREATE_TIME: 03-July-2016; Customer Specific: N/A
footprint 0603-RW
footprint 0603-SW
pins: 1, 2

## RES0603 1/10W 1% 82.5K OHM
designator R?, comment value 82.5K OHM  (hidden comment: QCF011030-8252)
CHIP RES 82.5K OHM 1% 1/10W 0603; SAP: T502825202399; CREATE_NAME: TOM@Deftronics; DIP&SMD: SMD; Package: 0603; TOL: 1%; MFG Part: *; MFG: *; Vendor Code: *; Vendor Name: *; Type: Resistor; Power: 1/10W; CREATE_TIME: 05-Jun-2014; Customer Specific: N/A
footprint 0603-RW
footprint 0603-SW
pins: 1, 2

## RES0603 1/10W 1% 82K OHM
designator R?, comment value 82K  (hidden comment: QCF011030-8202)
GP CHIP RES. 82K OHM 1/10W 1% 0603; Vendor Code: 10010262; SAP: T502820202399; Vendor Name: 东莞市晴远电子有限公司; DIP&SMD: SMD; Power: 1/10W; MFG Part: *; MFG: *; TOL: 1%; Type: Resistor; PACKAGE: 0603; Customer Specific: N/A
footprint 0603-RW
footprint 0603-SW
pins: 1, 2

## RES0603 1/10W 1% 91K OHM_WALSIN
designator R?, comment value 91K  (hidden comment: T502910202399)
CHIP 91K OHM 100PPM +-1% 0603 WALS L; MFG Part: WR06X9102FTL; Power: 1/10W; MFG: WALSIN; TOL: 1%; DIP&SMD: SMD; CREATE_NAME: Nathan; Vendor Code: *; SAP: T502910202399; Vendor Name: *; Type: Resistor; PACKAGE: 0603; Customer Specific: N/A; CREATE_TIME: 28-Aug-2020
footprint 0603-RW
footprint 0603-SW
pins: 1, 2

## RES0603 1/10W 1% 91R OHM
designator R?, comment value 91R  (hidden comment: T502910A02399)
CHIP 91 OHM 100PPM +-1% 0603 WALS L; Power: 1/10W; TOL: 1%; CREATE_NAME: Tom; DIP&SMD: SMD; Vendor Code: *; SAP: T502910A02399; Vendor Name: *; MFG: *; MFG Part: *; Type: Resistor; CREATE_TIME: 10-Sep-2015; PACKAGE: 0603; Customer Specific: N/A
footprint 0603-RW
footprint 0603-SW
pins: 1, 2

## RES0603 1/10W 1% 100 OHM
designator R?, comment value 100R  (hidden comment: QCF011030-1000)
CHIP 100 OHM 100PPM +-1% 0603 WALS L; Vendor Code: 10010262; SAP: T502100002399; Power: 1/10W; Vendor Name: 东莞市晴远电子有限公司; MFG: WALSIN (華新); TOL: 1%; DIP&SMD: SMD; MFG Part: *; Type: Resistor; PACKAGE: 0603; Customer Specific: N/A
footprint 0603-RW
footprint 0603-SW
pins: 1, 2

## RES0603 1/10W 1% 100K OHM
designator R?, comment value 100K  (hidden comment: QCF011030-1003)
GP CHIP RES. 100K OHM 1/10W 1% 0603; Vendor Code: 10010262; SAP: T502100302399; Vendor Name: 东莞市晴远电子有限公司; DIP&SMD: SMD; Power: 1/10W; MFG Part: *; MFG: *; TOL: 1%; Type: Resistor; PACKAGE: 0603; Customer Specific: N/A
footprint 0603-RW
footprint 0603-SW
pins: 1, 2

## RES0603 1/10W 1% 105K OHM_WALSIN
designator R?, comment value 105K  (hidden comment: T502105302399)
CHIP 105K OHM  100PPM +-1% 0603 WALS L; MFG Part: WR06X1053FTL; Power: 1/10W; MFG: WALSIN (華新); TOL: 1%; CREATE_NAME: Nathan; DIP&SMD: SMD; Vendor Code: *; SAP: T502105302399; Vendor Name: *; Type: Resistor; PACKAGE: 0603; CREATE_TIME: 03-July-2016; Customer Specific: N/A
footprint 0603-RW
footprint 0603-SW
pins: 1, 2

## RES0603 1/10W 1% 110 OHM
designator R?, comment value 110R  (hidden comment: QCF011030-1100)
GP CHIP RES. 110 OHM 1/10W 1% 0603; Vendor Code: 10010262; SAP: T502110002399; Vendor Name: 东莞市晴远电子有限公司; DIP&SMD: SMD; Power: 1/10W; MFG Part: *; MFG: *; TOL: 1%; Type: Resistor; PACKAGE: 0603; Customer Specific: N/A
footprint 0603-RW
footprint 0603-SW
pins: 1, 2

## RES0603 1/10W 1% 110K OHM
designator R?, comment value 110K  (hidden comment: QCF011030-1103)
CHIP RES 110K OHM 1/10W 1% 0603; Vendor Code: 10010262; SAP: T502110302399; Vendor Name: 东莞市晴远电子有限公司; DIP&SMD: SMD; Power: 1/10W; MFG Part: *; MFG: *; TOL: 1%; Type: Resistor; PACKAGE: 0603; Customer Specific: N/A
footprint 0603-RW
footprint 0603-SW
pins: 1, 2

## RES0603 1/10W 1% 113 OHM_WALSIN
designator R?, comment value 113R  (hidden comment: T502113002399)
CHIP 113 OHM 100PPM +-1% 0603 WALS L; MFG Part: WR06X1130FTL; Power: 1/10W; MFG: WALSIN (華新); TOL: 1%; CREATE_NAME: Nathan; DIP&SMD: SMD; Vendor Code: *; SAP: T502113002399; Vendor Name: *; Type: Resistor; PACKAGE: 0603; CREATE_TIME: 22-May-2019; Customer Specific: N/A
footprint 0603-RW
footprint 0603-SW
pins: 1, 2

## RES0603 1/10W 1% 120 OHM
designator R?, comment value 120R  (hidden comment: QCF011030-1200)
CHIP RES 120 OHM 1/10W 1% 0603; Vendor Code: 10010262; SAP: T502120002399; Vendor Name: 东莞市晴远电子有限公司; DIP&SMD: SMD; Power: 1/10W; MFG Part: *; MFG: *; TOL: 1%; Type: Resistor; PACKAGE: 0603; Customer Specific: N/A
footprint 0603-RW
footprint 0603-SW
pins: 1, 2

## RES0603 1/10W 1% 120K OHM
designator R?, comment value 120K  (hidden comment: QCF011030-1203)
CHIP RES 120K OHM 1% 1/10W 0603; Vendor Code: 10010262; SAP: T502120K02399; Vendor Name: 东莞市晴远电子有限公司; DIP&SMD: SMD; Power: 1/10W; MFG Part: *; MFG: *; TOL: 1%; Type: Resistor; PACKAGE: 0603; Customer Specific: N/A
footprint 0603-RW
footprint 0603-SW
pins: 1, 2

## RES0603 1/10W 1% 121K OHM
designator R?, comment value 121K  (hidden comment: QCF011030-1213)
CHIP RES 121K OHM 1/10W 1% 0603; Vendor Code: 10010262; SAP: T502121302399; Vendor Name: 东莞市晴远电子有限公司; DIP&SMD: SMD; Power: 1/10W; MFG Part: *; MFG: *; TOL: 1%; Type: Resistor; PACKAGE: 0603; Customer Specific: N/A
footprint 0603-RW
footprint 0603-SW
pins: 1, 2

## RES0603 1/10W 1% 121R OHM
designator R?, comment value 121R  (hidden comment: QCF011030-1210)
CHIP RES 121R OHM 1% 1/10W 0603; SAP: T502121002399; CREATE_Name: Evan; CREATE_Time: May-04-2014; DIP&SMD: SMD; Vendor Code: *; Power: 1/10W; Vendor Name: *; MFG: *; MFG Part: *; TOL: 1%; Type: Resistor; PACKAGE: 0603; Customer Specific: N/A
footprint 0603-RW
footprint 0603-SW
pins: 1, 2

## RES0603 1/10W 1% 130K OHM
designator R?, comment value 130K  (hidden comment: QCF011030-1303)
GP CHIP RES 130K OHM 1/10W 1% 0603; Vendor Code: 10010262; SAP: T502130302399; Vendor Name: 东莞市晴远电子有限公司; DIP&SMD: SMD; Power: 1/10W; MFG Part: *; MFG: *; TOL: 1%; Type: Resistor; PACKAGE: 0603; Customer Specific: N/A
footprint 0603-RW
footprint 0603-SW
pins: 1, 2

## RES0603 1/10W 1% 133K OHM
designator R?, comment value 133K  (hidden comment: QCF011030-1333)
GP CHIP RES. 133K OHM 1/10W 1% 0603; Vendor Code: 10010262; Vendor Name: 东莞市晴远电子有限公司; SAP: T502133302399; DIP&SMD: SMD; Power: 1/10W; MFG Part: *; MFG: *; TOL: 1%; Type: Resistor; PACKAGE: 0603; Customer Specific: N/A
footprint 0603-RW
footprint 0603-SW
pins: 1, 2

## RES0603 1/10W 1% 143K OHM
designator R?, comment value 143K  (hidden comment: QCF011030-1433)
CHIP RES 143K OHM 1% 1/10W 0603 100PPM WALSIN; Vendor Code: 10010262; SAP: T502143302399; Vendor Name: 东莞市晴远电子有限公司; CREATE_NAME: Nathan; DIP&SMD: SMD; Power: 1/10W; MFG Part: *; MFG: WALSIN; TOL: 1%; Type: Resistor; CREATE_TIME: 15-Apr-2015; PACKAGE: 0603; Customer Specific: N/A
footprint 0603-RW
footprint 0603-SW
pins: 1, 2

## RES0603 1/10W 1% 150 OHM
designator R?, comment value 150R  (hidden comment: QCF011030-1500)
GP CHIP RES. 150 OHM 1/10W 1% 0603; Vendor Code: 10010262; SAP: T502150002399; Vendor Name: 东莞市晴远电子有限公司; DIP&SMD: SMD; Power: 1/10W; MFG Part: *; MFG: *; TOL: 1%; Type: Resistor; PACKAGE: 0603; Customer Specific: N/A
footprint 0603-RW
footprint 0603-SW
pins: 1, 2

## RES0603 1/10W 1% 150 OHM_TA-I
designator R?, comment value 150R  (hidden comment: T502150002394)
CHIP 150 OHM   100PPM +-1% 0603 TA-I L; Power: 1/10W; TOL: 1%; CREATE_NAME: Nathan; DIP&SMD: SMD; Vendor Code: *; SAP: T502150002394; Vendor Name: *; MFG Part: *; MFG: TA-I; Type: Resistor; PACKAGE: 0603; CREATE_TIME: 03-July-2016; Customer Specific: N/A
footprint 0603-RW
footprint 0603-SW
pins: 1, 2

## RES0603 1/10W 1% 150K OHM
designator R?, comment value 150K  (hidden comment: QCF011030-1503)
CHIP RES 150K OHM 1/10W 1% 0603; Vendor Code: 10010262; SAP: T502150302399; Vendor Name: 东莞市晴远电子有限公司; DIP&SMD: SMD; Power: 1/10W; MFG Part: *; MFG: *; TOL: 1%; Type: Resistor; PACKAGE: 0603; Customer Specific: N/A
footprint 0603-RW
footprint 0603-SW
pins: 1, 2

## RES0603 1/10W 1% 160K OHM
designator R?, comment value 160K  (hidden comment: QCF011030-1603)
CHIP RES 160K OHM 1/10W 1% 0603; Vendor Code: 10010262; SAP: T502160302399; Vendor Name: 东莞市晴远电子有限公司; DIP&SMD: SMD; Power: 1/10W; MFG Part: *; MFG: *; TOL: 1%; Type: Resistor; PACKAGE: 0603; Customer Specific: N/A
footprint 0603-RW
footprint 0603-SW
pins: 1, 2

## RES0603 1/10W 1% 165K OHM_WALSIN
designator R?, comment value 165K  (hidden comment: T502165302399)
CHIP 165K OHM 100PPM +-1% 0603 WALS L; MFG Part: WR06X1653FTL; Power: 1/10W; MFG: WALSIN (華新); TOL: 1%; CREATE_NAME: Nathan; DIP&SMD: SMD; Vendor Code: *; SAP: T502165302399; Vendor Name: *; Type: Resistor; PACKAGE: 0603; CREATE_TIME: 24-Nov-2017; Customer Specific: N/A
footprint 0603-RW
footprint 0603-SW
pins: 1, 2

## RES0603 1/10W 1% 180 OHM
designator R?, comment value 180R  (hidden comment: QCF011030-1800)
CHIP RES. 180 OHM 1/10W 1% 0603; Vendor Code: 10010262; SAP: T502180002399; Vendor Name: 东莞市晴远电子有限公司; DIP&SMD: SMD; Power: 1/10W; MFG Part: *; MFG: *; TOL: 1%; Type: Resistor; PACKAGE: 0603; Customer Specific: N/A
footprint 0603-RW
footprint 0603-SW
pins: 1, 2

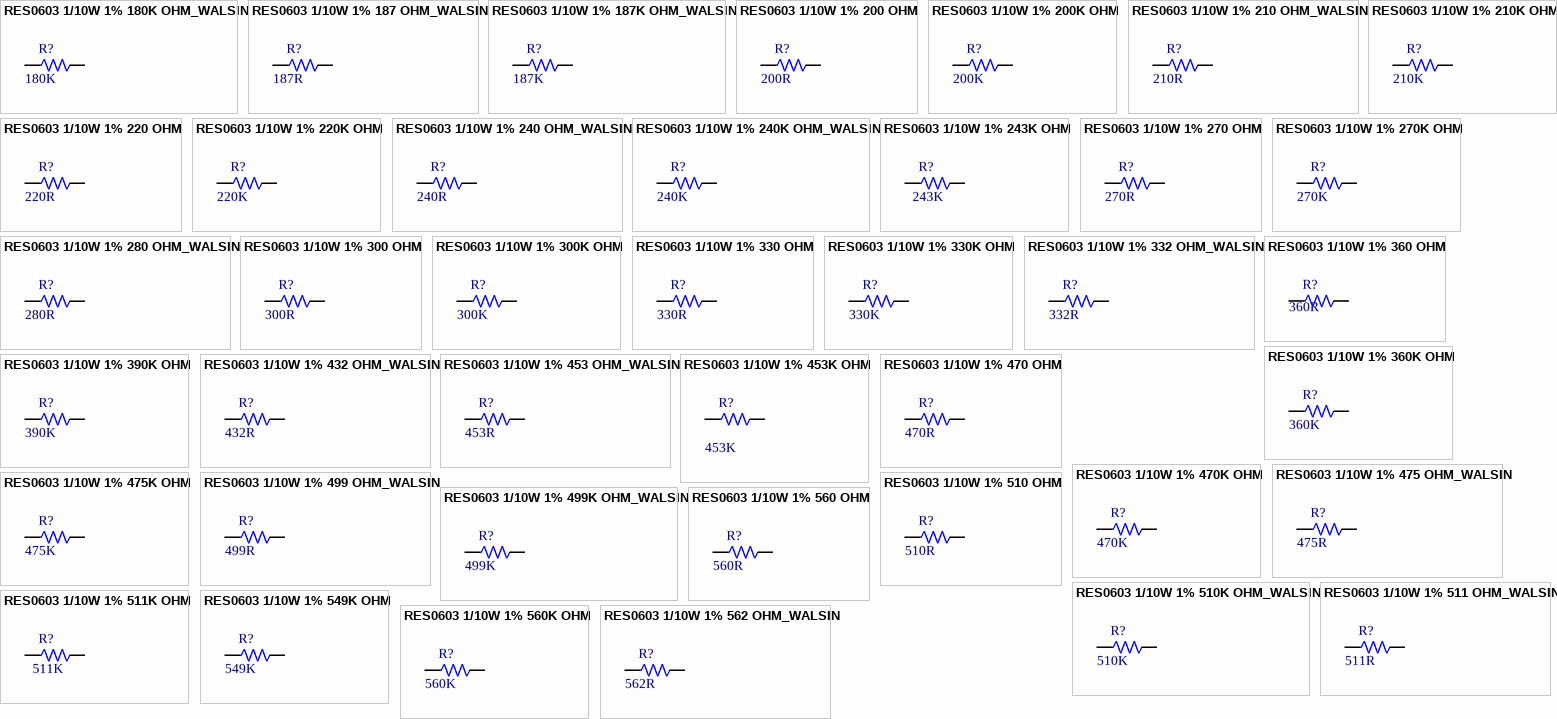
[diagram p16: symbols RES0603 1/10W 1% 180K OHM_WALSIN to RES0603 1/10W 1% 562 OHM_WALSIN]

## RES0603 1/10W 1% 180K OHM_WALSIN
designator R?, comment value 180K  (hidden comment: T502180302399)
CHIP 180K OHM  100PPM +-1% 0603 WALS L; Power: 1/10W; MFG: WALSIN (華新); TOL: 1%; CREATE_NAME: Nathan; DIP&SMD: SMD; Vendor Code: *; SAP: T502180302399; Vendor Name: *; MFG Part: *; Type: Resistor; PACKAGE: 0603; CREATE_TIME: 03-July-2016; Customer Specific: N/A
footprint 0603-RW
footprint 0603-SW
pins: 1, 2

## RES0603 1/10W 1% 187 OHM_WALSIN
designator R?, comment value 187R  (hidden comment: T502187002399)
CHIP 187 OHM 100PPM +-1% 0603 WALS L; Power: 1/10W; MFG: WALSIN (華新); TOL: 1%; CREATE_NAME: Nathan; DIP&SMD: SMD; Vendor Code: *; SAP: T502187002399; Vendor Name: *; MFG Part: *; Type: Resistor; PACKAGE: 0603; CREATE_TIME: 03-July-2016; Customer Specific: N/A
footprint 0603-RW
footprint 0603-SW
pins: 1, 2

## RES0603 1/10W 1% 187K OHM_WALSIN
designator R?, comment value 187K  (hidden comment: T502187302399)
CHIP 187K OHM 100PPM +-1% 0603 WALS L; MFG Part: WR06X1873FTL; Power: 1/10W; MFG: WALSIN (華新); TOL: 1%; CREATE_NAME: Nathan; DIP&SMD: SMD; Vendor Code: *; SAP: T502187302399; Vendor Name: *; Type: Resistor; PACKAGE: 0603; CREATE_TIME: 03-July-2016; Customer Specific: N/A
footprint 0603-RW
footprint 0603-SW
pins: 1, 2

## RES0603 1/10W 1% 200 OHM
designator R?, comment value 200R  (hidden comment: T502200002399)
CHIP 200 OHM 100PPM +-1% 0603 WALS L; Power: 1/10W; MFG: WALSIN; TOL: 1%; CREATE_NAME: Nathan; DIP&SMD: SMD; Vendor Code: *; SAP: T502200002399; Vendor Name: *; MFG Part: *; Type: Resistor; CREATE_TIME: 30-July-2015; PACKAGE: 0603; Customer Specific: N/A
footprint 0603-RW
footprint 0603-SW
pins: 1, 2